# Altium schematic symbol library MIC5235.Schlib: 1 symbol
Pins are listed as number, name and electrical type; pins without a type are passive.

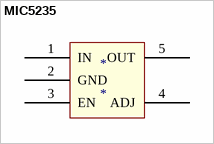
[diagram p0: symbol MIC5235]

## MIC5235
designator *
Adjustable LDO
pins: 1 IN, 2 GND, 3 EN, 4 ADJ, 5 OUT